# Altium integrated library Wurth_Elektronik_Passive_rev16a.IntLib: 1143 symbols (part 11 of 28)
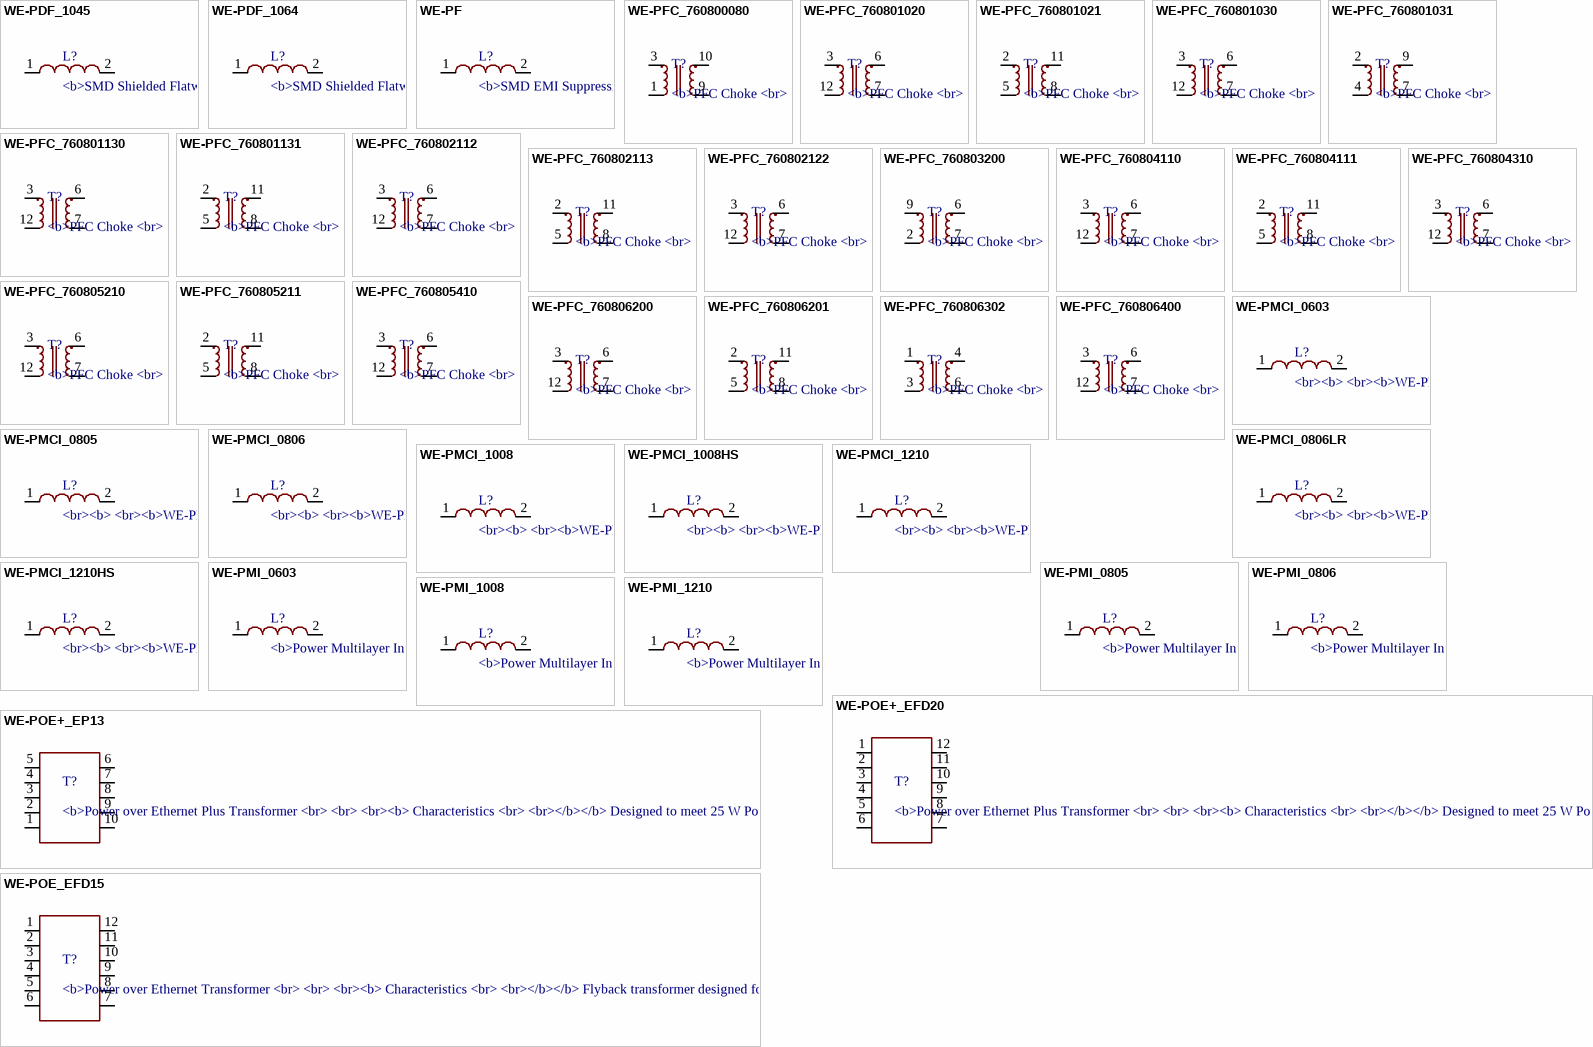
[diagram p68: symbols WE-PDF_1045 to WE-POE_EFD15]

## WE-PDF_1064
designator L?, comment <b>SMD Shielded Flatwire Power Inductor / <br> / <br> / <br><b> Characteristics / <br> / <br></b></b> Core material: NiZn / <br> / <br> Flat wire power inductor / <br> / <br> Advanced operating temperature: –40 °C up to +150 °C / <br> / <br> Magnetically shielded which results in a low leakage field / <br> / <br> Low self-losses / <br> / <br> High saturation current / <br> / <br> Flat wire coil for lower losses at high frequency ranges / <br> / <br> High Self Resonance Frequency / <br> / <br> / <br><b> Applications / <br> / <br></b> Suitable for high frequency switching regulators / <br> / <br> / <br><a href="<br><a href="http://katalog.we-online.de/media/images/eisos/IndPDF_pf2.jpg" title="Enlarge picture"> / <img src="http://katalog.we-online.de/media/images/eisos/IndPDF_pf2.jpg" width="320"></a><p> / Details see: <a href="http://katalog.we-online.de/en/pbs/WE-PDF?">http://katalog.we-online.de/en/pbs/WE-PDF?</a><p> / Updated  by  Dan Xu 2014-07-08<br> / 2014 (C) Wurth Elektronik
footprint WE-PDF
pins: 1, 2

## WE-PF
designator L?, comment <b>SMD EMI Suppression Power Ferrite / <br> / <br> / <br><b> Characteristics / <br> / <br></b></b> Suitable for applications with high currents up to 10 A / <br> / <br> Magnetically shielded version / <br> / <br> Core material NiZn for the use in a wide frequency range / <br> / <br> Operating temperature: –40 ºC to +125 ºC / <br> / <br> / <br><b> Applications / <br> / <br></b> Interference suppression in motors / <br> / <br> Switch mode power supply / <br> / <br> Power electronics / <br> / <br> PWM controller / <br> / <br> / <br> / <br><a href="<br><a href="http://katalog.we-online.de/media/images/eisos/FePF_pf2.jpg" title="Enlarge picture"> / <img src="http://katalog.we-online.de/media/images/eisos/FePF_pf2.jpg" width="320"></a><p> / Details see: <a href="http://katalog.we-online.de/en/pbs/WE-PF?">http://katalog.we-online.de/en/pbs/WE-PF?</a><p> / Updated  by  Dan Xu 2014-07-08<br> / 2014 (C) Wurth Elektronik
footprint WE-PF_7427929...
pins: 1, 2

## WE-PFC_760800080
designator T?, comment <b>PFC Choke / <br> / <br> / <br><b> Characteristics / <br> / <br></b></b> PFC choke for power up to 250 W / <br> / <br> Operating temperature: –40 °C to +125 °C / <br> / <br> PQ 38/11 construction height <10 mm above PCB / <br> / <br> Auxiliary winding / <br> / <br> RF strand for low losses due to skin and proximity effects / <br> / <br> / <br><b> Applications / <br> / <br></b> Active Power Factor correction / <br> / <br> For all ICs CPU PFC ON Semiconductor / <br> / <br> Lighting applications / <br> / <br> Switchmode power supplies / <br> / <br> / <br> / <br><a href="<br><a href="http://katalog.we-online.de/media/images/eisos/IndPFC_MID_pf2.jpg" title="Enlarge picture"> / <img src="http://katalog.we-online.de/media/images/eisos/IndPFC_MID_pf2.jpg" width="320"></a><p> / Details see: <a href="http://katalog.we-online.de/en/pbs/WE-PFC?">http://katalog.we-online.de/en/pbs/WE-PFC?</a><p> / Updated  by  Dan Xu 2014-07-08<br> / 2014 (C) Wurth Elektronik
footprint WE_EE20/10/6_THT_HORIZONTAL_10PIN
pins: 1 4, 3 1, 9 3, 10 2

## WE-PFC_760801020
designator T?, comment <b>PFC Choke / <br> / <br> / <br><b> Characteristics / <br> / <br></b></b> PFC choke for power up to 250 W / <br> / <br> Operating temperature: –40 °C to +125 °C / <br> / <br> PQ 38/11 construction height <10 mm above PCB / <br> / <br> Auxiliary winding / <br> / <br> RF strand for low losses due to skin and proximity effects / <br> / <br> / <br><b> Applications / <br> / <br></b> Active Power Factor correction / <br> / <br> For all ICs CPU PFC ON Semiconductor / <br> / <br> Lighting applications / <br> / <br> Switchmode power supplies / <br> / <br> / <br> / <br><a href="<br><a href="http://katalog.we-online.de/media/images/eisos/IndPFC_MID_pf2.jpg" title="Enlarge picture"> / <img src="http://katalog.we-online.de/media/images/eisos/IndPFC_MID_pf2.jpg" width="320"></a><p> / Details see: <a href="http://katalog.we-online.de/en/pbs/WE-PFC?">http://katalog.we-online.de/en/pbs/WE-PFC?</a><p> / Updated  by  Dan Xu 2014-07-08<br> / 2014 (C) Wurth Elektronik
footprint WE_RM10_THT_12PIN
pins: 3 1, 6 2, 7 3, 12 4

## WE-PFC_760801021
designator T?, comment <b>PFC Choke / <br> / <br> / <br><b> Characteristics / <br> / <br></b></b> PFC choke for power up to 250 W / <br> / <br> Operating temperature: –40 °C to +125 °C / <br> / <br> PQ 38/11 construction height <10 mm above PCB / <br> / <br> Auxiliary winding / <br> / <br> RF strand for low losses due to skin and proximity effects / <br> / <br> / <br><b> Applications / <br> / <br></b> Active Power Factor correction / <br> / <br> For all ICs CPU PFC ON Semiconductor / <br> / <br> Lighting applications / <br> / <br> Switchmode power supplies / <br> / <br> / <br> / <br><a href="<br><a href="http://katalog.we-online.de/media/images/eisos/IndPFC_MID_pf2.jpg" title="Enlarge picture"> / <img src="http://katalog.we-online.de/media/images/eisos/IndPFC_MID_pf2.jpg" width="320"></a><p> / Details see: <a href="http://katalog.we-online.de/en/pbs/WE-PFC?">http://katalog.we-online.de/en/pbs/WE-PFC?</a><p> / Updated  by  Dan Xu 2014-07-08<br> / 2014 (C) Wurth Elektronik
footprint WE_EFD30_THT_12PIN
pins: 2 1, 5 4, 8 3, 11 2

## WE-PFC_760801030
designator T?, comment <b>PFC Choke / <br> / <br> / <br><b> Characteristics / <br> / <br></b></b> PFC choke for power up to 250 W / <br> / <br> Operating temperature: –40 °C to +125 °C / <br> / <br> PQ 38/11 construction height <10 mm above PCB / <br> / <br> Auxiliary winding / <br> / <br> RF strand for low losses due to skin and proximity effects / <br> / <br> / <br><b> Applications / <br> / <br></b> Active Power Factor correction / <br> / <br> For all ICs CPU PFC ON Semiconductor / <br> / <br> Lighting applications / <br> / <br> Switchmode power supplies / <br> / <br> / <br> / <br><a href="<br><a href="http://katalog.we-online.de/media/images/eisos/IndPFC_MID_pf2.jpg" title="Enlarge picture"> / <img src="http://katalog.we-online.de/media/images/eisos/IndPFC_MID_pf2.jpg" width="320"></a><p> / Details see: <a href="http://katalog.we-online.de/en/pbs/WE-PFC?">http://katalog.we-online.de/en/pbs/WE-PFC?</a><p> / Updated  by  Dan Xu 2014-07-08<br> / 2014 (C) Wurth Elektronik
footprint WE_RM10_THT_12PIN
pins: 3 1, 6 2, 7 3, 12 4

## WE-PFC_760801031
designator T?, comment <b>PFC Choke / <br> / <br> / <br><b> Characteristics / <br> / <br></b></b> PFC choke for power up to 250 W / <br> / <br> Operating temperature: –40 °C to +125 °C / <br> / <br> PQ 38/11 construction height <10 mm above PCB / <br> / <br> Auxiliary winding / <br> / <br> RF strand for low losses due to skin and proximity effects / <br> / <br> / <br><b> Applications / <br> / <br></b> Active Power Factor correction / <br> / <br> For all ICs CPU PFC ON Semiconductor / <br> / <br> Lighting applications / <br> / <br> Switchmode power supplies / <br> / <br> / <br> / <br><a href="<br><a href="http://katalog.we-online.de/media/images/eisos/IndPFC_MID_pf2.jpg" title="Enlarge picture"> / <img src="http://katalog.we-online.de/media/images/eisos/IndPFC_MID_pf2.jpg" width="320"></a><p> / Details see: <a href="http://katalog.we-online.de/en/pbs/WE-PFC?">http://katalog.we-online.de/en/pbs/WE-PFC?</a><p> / Updated  by  Dan Xu 2014-07-08<br> / 2014 (C) Wurth Elektronik
footprint WE_EFD25_THT_HORIZONTAL_10PIN
pins: 2 1, 4, 7 3, 9 2

## WE-PFC_760801130
designator T?, comment <b>PFC Choke / <br> / <br> / <br><b> Characteristics / <br> / <br></b></b> PFC choke for power up to 250 W / <br> / <br> Operating temperature: –40 °C to +125 °C / <br> / <br> PQ 38/11 construction height <10 mm above PCB / <br> / <br> Auxiliary winding / <br> / <br> RF strand for low losses due to skin and proximity effects / <br> / <br> / <br><b> Applications / <br> / <br></b> Active Power Factor correction / <br> / <br> For all ICs CPU PFC ON Semiconductor / <br> / <br> Lighting applications / <br> / <br> Switchmode power supplies / <br> / <br> / <br> / <br><a href="<br><a href="http://katalog.we-online.de/media/images/eisos/IndPFC_MID_pf2.jpg" title="Enlarge picture"> / <img src="http://katalog.we-online.de/media/images/eisos/IndPFC_MID_pf2.jpg" width="320"></a><p> / Details see: <a href="http://katalog.we-online.de/en/pbs/WE-PFC?">http://katalog.we-online.de/en/pbs/WE-PFC?</a><p> / Updated  by  Dan Xu 2014-07-08<br> / 2014 (C) Wurth Elektronik
footprint WE_RM10_THT_12PIN
pins: 3 1, 6 2, 7 3, 12 4

## WE-PFC_760801131
designator T?, comment <b>PFC Choke / <br> / <br> / <br><b> Characteristics / <br> / <br></b></b> PFC choke for power up to 250 W / <br> / <br> Operating temperature: –40 °C to +125 °C / <br> / <br> PQ 38/11 construction height <10 mm above PCB / <br> / <br> Auxiliary winding / <br> / <br> RF strand for low losses due to skin and proximity effects / <br> / <br> / <br><b> Applications / <br> / <br></b> Active Power Factor correction / <br> / <br> For all ICs CPU PFC ON Semiconductor / <br> / <br> Lighting applications / <br> / <br> Switchmode power supplies / <br> / <br> / <br> / <br><a href="<br><a href="http://katalog.we-online.de/media/images/eisos/IndPFC_MID_pf2.jpg" title="Enlarge picture"> / <img src="http://katalog.we-online.de/media/images/eisos/IndPFC_MID_pf2.jpg" width="320"></a><p> / Details see: <a href="http://katalog.we-online.de/en/pbs/WE-PFC?">http://katalog.we-online.de/en/pbs/WE-PFC?</a><p> / Updated  by  Dan Xu 2014-07-08<br> / 2014 (C) Wurth Elektronik
footprint WE_EFD30_THT_12PIN
pins: 2 1, 5 4, 8 3, 11 2

## WE-PFC_760802112
designator T?, comment <b>PFC Choke / <br> / <br> / <br><b> Characteristics / <br> / <br></b></b> PFC choke for power up to 250 W / <br> / <br> Operating temperature: –40 °C to +125 °C / <br> / <br> PQ 38/11 construction height <10 mm above PCB / <br> / <br> Auxiliary winding / <br> / <br> RF strand for low losses due to skin and proximity effects / <br> / <br> / <br><b> Applications / <br> / <br></b> Active Power Factor correction / <br> / <br> For all ICs CPU PFC ON Semiconductor / <br> / <br> Lighting applications / <br> / <br> Switchmode power supplies / <br> / <br> / <br> / <br><a href="<br><a href="http://katalog.we-online.de/media/images/eisos/IndPFC_MID_pf2.jpg" title="Enlarge picture"> / <img src="http://katalog.we-online.de/media/images/eisos/IndPFC_MID_pf2.jpg" width="320"></a><p> / Details see: <a href="http://katalog.we-online.de/en/pbs/WE-PFC?">http://katalog.we-online.de/en/pbs/WE-PFC?</a><p> / Updated  by  Dan Xu 2014-07-08<br> / 2014 (C) Wurth Elektronik
footprint WE_RM10_THT_12PIN
pins: 3 1, 6 2, 7 3, 12 4

## WE-PFC_760802113
designator T?, comment <b>PFC Choke / <br> / <br> / <br><b> Characteristics / <br> / <br></b></b> PFC choke for power up to 250 W / <br> / <br> Operating temperature: –40 °C to +125 °C / <br> / <br> PQ 38/11 construction height <10 mm above PCB / <br> / <br> Auxiliary winding / <br> / <br> RF strand for low losses due to skin and proximity effects / <br> / <br> / <br><b> Applications / <br> / <br></b> Active Power Factor correction / <br> / <br> For all ICs CPU PFC ON Semiconductor / <br> / <br> Lighting applications / <br> / <br> Switchmode power supplies / <br> / <br> / <br> / <br><a href="<br><a href="http://katalog.we-online.de/media/images/eisos/IndPFC_MID_pf2.jpg" title="Enlarge picture"> / <img src="http://katalog.we-online.de/media/images/eisos/IndPFC_MID_pf2.jpg" width="320"></a><p> / Details see: <a href="http://katalog.we-online.de/en/pbs/WE-PFC?">http://katalog.we-online.de/en/pbs/WE-PFC?</a><p> / Updated  by  Dan Xu 2014-07-08<br> / 2014 (C) Wurth Elektronik
footprint WE_EFD30_THT_12PIN
pins: 2 1, 5 4, 8 3, 11 2

## WE-PFC_760802122
designator T?, comment <b>PFC Choke / <br> / <br> / <br><b> Characteristics / <br> / <br></b></b> PFC choke for power up to 250 W / <br> / <br> Operating temperature: –40 °C to +125 °C / <br> / <br> PQ 38/11 construction height <10 mm above PCB / <br> / <br> Auxiliary winding / <br> / <br> RF strand for low losses due to skin and proximity effects / <br> / <br> / <br><b> Applications / <br> / <br></b> Active Power Factor correction / <br> / <br> For all ICs CPU PFC ON Semiconductor / <br> / <br> Lighting applications / <br> / <br> Switchmode power supplies / <br> / <br> / <br> / <br><a href="<br><a href="http://katalog.we-online.de/media/images/eisos/IndPFC_MID_pf2.jpg" title="Enlarge picture"> / <img src="http://katalog.we-online.de/media/images/eisos/IndPFC_MID_pf2.jpg" width="320"></a><p> / Details see: <a href="http://katalog.we-online.de/en/pbs/WE-PFC?">http://katalog.we-online.de/en/pbs/WE-PFC?</a><p> / Updated  by  Dan Xu 2014-07-08<br> / 2014 (C) Wurth Elektronik
footprint WE_RM12_THT_12PIN
pins: 3 1, 6 2, 7 3, 12 4

## WE-PFC_760803200
designator T?, comment <b>PFC Choke / <br> / <br> / <br><b> Characteristics / <br> / <br></b></b> PFC choke for power up to 250 W / <br> / <br> Operating temperature: –40 °C to +125 °C / <br> / <br> PQ 38/11 construction height <10 mm above PCB / <br> / <br> Auxiliary winding / <br> / <br> RF strand for low losses due to skin and proximity effects / <br> / <br> / <br><b> Applications / <br> / <br></b> Active Power Factor correction / <br> / <br> For all ICs CPU PFC ON Semiconductor / <br> / <br> Lighting applications / <br> / <br> Switchmode power supplies / <br> / <br> / <br> / <br><a href="<br><a href="http://katalog.we-online.de/media/images/eisos/IndPFC_MID_pf2.jpg" title="Enlarge picture"> / <img src="http://katalog.we-online.de/media/images/eisos/IndPFC_MID_pf2.jpg" width="320"></a><p> / Details see: <a href="http://katalog.we-online.de/en/pbs/WE-PFC?">http://katalog.we-online.de/en/pbs/WE-PFC?</a><p> / Updated  by  Dan Xu 2014-07-08<br> / 2014 (C) Wurth Elektronik
footprint WE_EER28_THT_HORIZONTAL_9PIN
pins: 2 4, 6 2, 7 3, 9 1

## WE-PFC_760804110
designator T?, comment <b>PFC Choke / <br> / <br> / <br><b> Characteristics / <br> / <br></b></b> PFC choke for power up to 250 W / <br> / <br> Operating temperature: –40 °C to +125 °C / <br> / <br> PQ 38/11 construction height <10 mm above PCB / <br> / <br> Auxiliary winding / <br> / <br> RF strand for low losses due to skin and proximity effects / <br> / <br> / <br><b> Applications / <br> / <br></b> Active Power Factor correction / <br> / <br> For all ICs CPU PFC ON Semiconductor / <br> / <br> Lighting applications / <br> / <br> Switchmode power supplies / <br> / <br> / <br> / <br><a href="<br><a href="http://katalog.we-online.de/media/images/eisos/IndPFC_MID_pf2.jpg" title="Enlarge picture"> / <img src="http://katalog.we-online.de/media/images/eisos/IndPFC_MID_pf2.jpg" width="320"></a><p> / Details see: <a href="http://katalog.we-online.de/en/pbs/WE-PFC?">http://katalog.we-online.de/en/pbs/WE-PFC?</a><p> / Updated  by  Dan Xu 2014-07-08<br> / 2014 (C) Wurth Elektronik
footprint WE_RM10_THT_12PIN
pins: 3 1, 6 2, 7 3, 12 4

## WE-PFC_760804111
designator T?, comment <b>PFC Choke / <br> / <br> / <br><b> Characteristics / <br> / <br></b></b> PFC choke for power up to 250 W / <br> / <br> Operating temperature: –40 °C to +125 °C / <br> / <br> PQ 38/11 construction height <10 mm above PCB / <br> / <br> Auxiliary winding / <br> / <br> RF strand for low losses due to skin and proximity effects / <br> / <br> / <br><b> Applications / <br> / <br></b> Active Power Factor correction / <br> / <br> For all ICs CPU PFC ON Semiconductor / <br> / <br> Lighting applications / <br> / <br> Switchmode power supplies / <br> / <br> / <br> / <br><a href="<br><a href="http://katalog.we-online.de/media/images/eisos/IndPFC_MID_pf2.jpg" title="Enlarge picture"> / <img src="http://katalog.we-online.de/media/images/eisos/IndPFC_MID_pf2.jpg" width="320"></a><p> / Details see: <a href="http://katalog.we-online.de/en/pbs/WE-PFC?">http://katalog.we-online.de/en/pbs/WE-PFC?</a><p> / Updated  by  Dan Xu 2014-07-08<br> / 2014 (C) Wurth Elektronik
footprint WE_EFD30_THT_12PIN
pins: 2 1, 5 4, 8 3, 11 2

## WE-PFC_760804310
designator T?, comment <b>PFC Choke / <br> / <br> / <br><b> Characteristics / <br> / <br></b></b> PFC choke for power up to 250 W / <br> / <br> Operating temperature: –40 °C to +125 °C / <br> / <br> PQ 38/11 construction height <10 mm above PCB / <br> / <br> Auxiliary winding / <br> / <br> RF strand for low losses due to skin and proximity effects / <br> / <br> / <br><b> Applications / <br> / <br></b> Active Power Factor correction / <br> / <br> For all ICs CPU PFC ON Semiconductor / <br> / <br> Lighting applications / <br> / <br> Switchmode power supplies / <br> / <br> / <br> / <br><a href="<br><a href="http://katalog.we-online.de/media/images/eisos/IndPFC_MID_pf2.jpg" title="Enlarge picture"> / <img src="http://katalog.we-online.de/media/images/eisos/IndPFC_MID_pf2.jpg" width="320"></a><p> / Details see: <a href="http://katalog.we-online.de/en/pbs/WE-PFC?">http://katalog.we-online.de/en/pbs/WE-PFC?</a><p> / Updated  by  Dan Xu 2014-07-08<br> / 2014 (C) Wurth Elektronik
footprint WE_RM12_THT_12PIN
pins: 3 1, 6 2, 7 3, 12 4

## WE-PFC_760805210
designator T?, comment <b>PFC Choke / <br> / <br> / <br><b> Characteristics / <br> / <br></b></b> PFC choke for power up to 250 W / <br> / <br> Operating temperature: –40 °C to +125 °C / <br> / <br> PQ 38/11 construction height <10 mm above PCB / <br> / <br> Auxiliary winding / <br> / <br> RF strand for low losses due to skin and proximity effects / <br> / <br> / <br><b> Applications / <br> / <br></b> Active Power Factor correction / <br> / <br> For all ICs CPU PFC ON Semiconductor / <br> / <br> Lighting applications / <br> / <br> Switchmode power supplies / <br> / <br> / <br> / <br><a href="<br><a href="http://katalog.we-online.de/media/images/eisos/IndPFC_MID_pf2.jpg" title="Enlarge picture"> / <img src="http://katalog.we-online.de/media/images/eisos/IndPFC_MID_pf2.jpg" width="320"></a><p> / Details see: <a href="http://katalog.we-online.de/en/pbs/WE-PFC?">http://katalog.we-online.de/en/pbs/WE-PFC?</a><p> / Updated  by  Dan Xu 2014-07-08<br> / 2014 (C) Wurth Elektronik
footprint WE_RM12_THT_12PIN
pins: 3 1, 6 2, 7 3, 12 4

## WE-PFC_760805211
designator T?, comment <b>PFC Choke / <br> / <br> / <br><b> Characteristics / <br> / <br></b></b> PFC choke for power up to 250 W / <br> / <br> Operating temperature: –40 °C to +125 °C / <br> / <br> PQ 38/11 construction height <10 mm above PCB / <br> / <br> Auxiliary winding / <br> / <br> RF strand for low losses due to skin and proximity effects / <br> / <br> / <br><b> Applications / <br> / <br></b> Active Power Factor correction / <br> / <br> For all ICs CPU PFC ON Semiconductor / <br> / <br> Lighting applications / <br> / <br> Switchmode power supplies / <br> / <br> / <br> / <br><a href="<br><a href="http://katalog.we-online.de/media/images/eisos/IndPFC_MID_pf2.jpg" title="Enlarge picture"> / <img src="http://katalog.we-online.de/media/images/eisos/IndPFC_MID_pf2.jpg" width="320"></a><p> / Details see: <a href="http://katalog.we-online.de/en/pbs/WE-PFC?">http://katalog.we-online.de/en/pbs/WE-PFC?</a><p> / Updated  by  Dan Xu 2014-07-08<br> / 2014 (C) Wurth Elektronik
footprint WE_EFD30_THT_12PIN
pins: 2 1, 5 4, 8 3, 11 2

## WE-PFC_760805410
designator T?, comment <b>PFC Choke / <br> / <br> / <br><b> Characteristics / <br> / <br></b></b> PFC choke for power up to 250 W / <br> / <br> Operating temperature: –40 °C to +125 °C / <br> / <br> PQ 38/11 construction height <10 mm above PCB / <br> / <br> Auxiliary winding / <br> / <br> RF strand for low losses due to skin and proximity effects / <br> / <br> / <br><b> Applications / <br> / <br></b> Active Power Factor correction / <br> / <br> For all ICs CPU PFC ON Semiconductor / <br> / <br> Lighting applications / <br> / <br> Switchmode power supplies / <br> / <br> / <br> / <br><a href="<br><a href="http://katalog.we-online.de/media/images/eisos/IndPFC_MID_pf2.jpg" title="Enlarge picture"> / <img src="http://katalog.we-online.de/media/images/eisos/IndPFC_MID_pf2.jpg" width="320"></a><p> / Details see: <a href="http://katalog.we-online.de/en/pbs/WE-PFC?">http://katalog.we-online.de/en/pbs/WE-PFC?</a><p> / Updated  by  Dan Xu 2014-07-08<br> / 2014 (C) Wurth Elektronik
footprint WE_RM14_THT_12PIN
pins: 3 1, 6 2, 7 3, 12 4

## WE-PFC_760806200
designator T?, comment <b>PFC Choke / <br> / <br> / <br><b> Characteristics / <br> / <br></b></b> PFC choke for power up to 250 W / <br> / <br> Operating temperature: –40 °C to +125 °C / <br> / <br> PQ 38/11 construction height <10 mm above PCB / <br> / <br> Auxiliary winding / <br> / <br> RF strand for low losses due to skin and proximity effects / <br> / <br> / <br><b> Applications / <br> / <br></b> Active Power Factor correction / <br> / <br> For all ICs CPU PFC ON Semiconductor / <br> / <br> Lighting applications / <br> / <br> Switchmode power supplies / <br> / <br> / <br> / <br><a href="<br><a href="http://katalog.we-online.de/media/images/eisos/IndPFC_MID_pf2.jpg" title="Enlarge picture"> / <img src="http://katalog.we-online.de/media/images/eisos/IndPFC_MID_pf2.jpg" width="320"></a><p> / Details see: <a href="http://katalog.we-online.de/en/pbs/WE-PFC?">http://katalog.we-online.de/en/pbs/WE-PFC?</a><p> / Updated  by  Dan Xu 2014-07-08<br> / 2014 (C) Wurth Elektronik
footprint WE_RM12_THT_12PIN
pins: 3 1, 6 2, 7 3, 12 4

## WE-PFC_760806201
designator T?, comment <b>PFC Choke / <br> / <br> / <br><b> Characteristics / <br> / <br></b></b> PFC choke for power up to 250 W / <br> / <br> Operating temperature: –40 °C to +125 °C / <br> / <br> PQ 38/11 construction height <10 mm above PCB / <br> / <br> Auxiliary winding / <br> / <br> RF strand for low losses due to skin and proximity effects / <br> / <br> / <br><b> Applications / <br> / <br></b> Active Power Factor correction / <br> / <br> For all ICs CPU PFC ON Semiconductor / <br> / <br> Lighting applications / <br> / <br> Switchmode power supplies / <br> / <br> / <br> / <br><a href="<br><a href="http://katalog.we-online.de/media/images/eisos/IndPFC_MID_pf2.jpg" title="Enlarge picture"> / <img src="http://katalog.we-online.de/media/images/eisos/IndPFC_MID_pf2.jpg" width="320"></a><p> / Details see: <a href="http://katalog.we-online.de/en/pbs/WE-PFC?">http://katalog.we-online.de/en/pbs/WE-PFC?</a><p> / Updated  by  Dan Xu 2014-07-08<br> / 2014 (C) Wurth Elektronik
footprint WE_EFD30_THT_12PIN
pins: 2 1, 5 4, 8 3, 11 2

## WE-PFC_760806302
designator T?, comment <b>PFC Choke / <br> / <br> / <br><b> Characteristics / <br> / <br></b></b> PFC choke for power up to 250 W / <br> / <br> Operating temperature: –40 °C to +125 °C / <br> / <br> PQ 38/11 construction height <10 mm above PCB / <br> / <br> Auxiliary winding / <br> / <br> RF strand for low losses due to skin and proximity effects / <br> / <br> / <br><b> Applications / <br> / <br></b> Active Power Factor correction / <br> / <br> For all ICs CPU PFC ON Semiconductor / <br> / <br> Lighting applications / <br> / <br> Switchmode power supplies / <br> / <br> / <br> / <br><a href="<br><a href="http://katalog.we-online.de/media/images/eisos/IndPFC_MID_pf2.jpg" title="Enlarge picture"> / <img src="http://katalog.we-online.de/media/images/eisos/IndPFC_MID_pf2.jpg" width="320"></a><p> / Details see: <a href="http://katalog.we-online.de/en/pbs/WE-PFC?">http://katalog.we-online.de/en/pbs/WE-PFC?</a><p> / Updated  by  Dan Xu 2014-07-08<br> / 2014 (C) Wurth Elektronik
footprint WE_PQ38/11_6PIN
pins: 1, 3 4, 4 2, 6 3

## WE-PFC_760806400
designator T?, comment <b>PFC Choke / <br> / <br> / <br><b> Characteristics / <br> / <br></b></b> PFC choke for power up to 250 W / <br> / <br> Operating temperature: –40 °C to +125 °C / <br> / <br> PQ 38/11 construction height <10 mm above PCB / <br> / <br> Auxiliary winding / <br> / <br> RF strand for low losses due to skin and proximity effects / <br> / <br> / <br><b> Applications / <br> / <br></b> Active Power Factor correction / <br> / <br> For all ICs CPU PFC ON Semiconductor / <br> / <br> Lighting applications / <br> / <br> Switchmode power supplies / <br> / <br> / <br> / <br><a href="<br><a href="http://katalog.we-online.de/media/images/eisos/IndPFC_MID_pf2.jpg" title="Enlarge picture"> / <img src="http://katalog.we-online.de/media/images/eisos/IndPFC_MID_pf2.jpg" width="320"></a><p> / Details see: <a href="http://katalog.we-online.de/en/pbs/WE-PFC?">http://katalog.we-online.de/en/pbs/WE-PFC?</a><p> / Updated  by  Dan Xu 2014-07-08<br> / 2014 (C) Wurth Elektronik
footprint WE_RM14_THT_12PIN
pins: 3 1, 6 2, 7 3, 12 4

## WE-PMCI_0603
designator L?, comment <br><b> <br><b>WE-PMCI Power Molded Chip / Inductor<br><br></b></b> / <P> <font color="#0000FF"><B>Characteristics</B></font></td><BR> / <br>Compact inductor chip type / <br>High effciency / <br>Suitable for applications with high currents up to 3.6 A. Very high DC-Bias current / <br>Very small electrical resistance, smallest RDC-Values starting at 19 mΩ / <br>Magnetically shielded construction: No crosstalk / <br>Operating temperature: –40 °C to +125 °C / <br>Available in five sizes and three different types (Low Profile, Standard and High Saturation Current) / <br>Recommended soldering profile: Reflow / <P> <font color="#0000FF"><B>Applications</B></font></td><BR><BR> / <br>DC/DC converters especially at high switching frequencies > 1 MHz / <br>High current power supply, Battery powered devices / <br>Powerable electronic devices with very low profile / <br>Portable devices like Smart Phones, Tablets, Notebooks and Digital Cameras / <br> / <br> / <br> / <br> / <br><a href="http://katalog.we-online.de/media/images/v2/Family_WE-PMCI.jpg" title="Enlarge picture"> / <img src="http://katalog.we-online.de/media/images/v2/Family_WE-PMCI.jpg" width="320"></a><p> / Details see: <a href="http://katalog.we-online.de/en/pbs/WE-PMCI">http://katalog.we-online.de/en/pbs/WE-PMCI</a><p> / <br></b>2015 (C) Wurth Elektronik
footprint 0603_74479262XXX
pins: 1, 2

## WE-PMCI_0805
designator L?, comment <br><b> <br><b>WE-PMCI Power Molded Chip / Inductor<br><br></b></b> / <P> <font color="#0000FF"><B>Characteristics</B></font></td><BR> / <br>Compact inductor chip type / <br>High effciency / <br>Suitable for applications with high currents up to 3.6 A. Very high DC-Bias current / <br>Very small electrical resistance, smallest RDC-Values starting at 19 mΩ / <br>Magnetically shielded construction: No crosstalk / <br>Operating temperature: –40 °C to +125 °C / <br>Available in five sizes and three different types (Low Profile, Standard and High Saturation Current) / <br>Recommended soldering profile: Reflow / <P> <font color="#0000FF"><B>Applications</B></font></td><BR><BR> / <br>DC/DC converters especially at high switching frequencies > 1 MHz / <br>High current power supply, Battery powered devices / <br>Powerable electronic devices with very low profile / <br>Portable devices like Smart Phones, Tablets, Notebooks and Digital Cameras / <br> / <br> / <br> / <br> / <br><a href="http://katalog.we-online.de/media/images/v2/Family_WE-PMCI.jpg" title="Enlarge picture"> / <img src="http://katalog.we-online.de/media/images/v2/Family_WE-PMCI.jpg" width="320"></a><p> / Details see: <a href="http://katalog.we-online.de/en/pbs/WE-PMCI">http://katalog.we-online.de/en/pbs/WE-PMCI</a><p> / <br></b>2015 (C) Wurth Elektronik
footprint 0805_74479275XXX
pins: 1, 2

## WE-PMCI_0806
designator L?, comment <br><b> <br><b>WE-PMCI Power Molded Chip / Inductor<br><br></b></b> / <P> <font color="#0000FF"><B>Characteristics</B></font></td><BR> / <br>Compact inductor chip type / <br>High effciency / <br>Suitable for applications with high currents up to 3.6 A. Very high DC-Bias current / <br>Very small electrical resistance, smallest RDC-Values starting at 19 mΩ / <br>Magnetically shielded construction: No crosstalk / <br>Operating temperature: –40 °C to +125 °C / <br>Available in five sizes and three different types (Low Profile, Standard and High Saturation Current) / <br>Recommended soldering profile: Reflow / <P> <font color="#0000FF"><B>Applications</B></font></td><BR><BR> / <br>DC/DC converters especially at high switching frequencies > 1 MHz / <br>High current power supply, Battery powered devices / <br>Powerable electronic devices with very low profile / <br>Portable devices like Smart Phones, Tablets, Notebooks and Digital Cameras / <br> / <br> / <br> / <br> / <br><a href="http://katalog.we-online.de/media/images/v2/Family_WE-PMCI.jpg" title="Enlarge picture"> / <img src="http://katalog.we-online.de/media/images/v2/Family_WE-PMCI.jpg" width="320"></a><p> / Details see: <a href="http://katalog.we-online.de/en/pbs/WE-PMCI">http://katalog.we-online.de/en/pbs/WE-PMCI</a><p> / <br></b>2015 (C) Wurth Elektronik
footprint 0806_74479276XXX
pins: 1, 2

## WE-PMCI_0806LR
designator L?, comment <br><b> <br><b>WE-PMCI Power Molded Chip / Inductor<br><br></b></b> / <P> <font color="#0000FF"><B>Characteristics</B></font></td><BR> / <br>Compact inductor chip type / <br>High effciency / <br>Suitable for applications with high currents up to 3.6 A. Very high DC-Bias current / <br>Very small electrical resistance, smallest RDC-Values starting at 19 mΩ / <br>Magnetically shielded construction: No crosstalk / <br>Operating temperature: –40 °C to +125 °C / <br>Available in five sizes and three different types (Low Profile, Standard and High Saturation Current) / <br>Recommended soldering profile: Reflow / <P> <font color="#0000FF"><B>Applications</B></font></td><BR><BR> / <br>DC/DC converters especially at high switching frequencies > 1 MHz / <br>High current power supply, Battery powered devices / <br>Powerable electronic devices with very low profile / <br>Portable devices like Smart Phones, Tablets, Notebooks and Digital Cameras / <br> / <br> / <br> / <br> / <br><a href="http://katalog.we-online.de/media/images/v2/Family_WE-PMCI.jpg" title="Enlarge picture"> / <img src="http://katalog.we-online.de/media/images/v2/Family_WE-PMCI.jpg" width="320"></a><p> / Details see: <a href="http://katalog.we-online.de/en/pbs/WE-PMCI">http://katalog.we-online.de/en/pbs/WE-PMCI</a><p> / <br></b>2015 (C) Wurth Elektronik
footprint 0806_74479276XXXC
pins: 1, 2

## WE-PMCI_1008
designator L?, comment <br><b> <br><b>WE-PMCI Power Molded Chip / Inductor<br><br></b></b> / <P> <font color="#0000FF"><B>Characteristics</B></font></td><BR> / <br>Compact inductor chip type / <br>High effciency / <br>Suitable for applications with high currents up to 3.6 A. Very high DC-Bias current / <br>Very small electrical resistance, smallest RDC-Values starting at 19 mΩ / <br>Magnetically shielded construction: No crosstalk / <br>Operating temperature: –40 °C to +125 °C / <br>Available in five sizes and three different types (Low Profile, Standard and High Saturation Current) / <br>Recommended soldering profile: Reflow / <P> <font color="#0000FF"><B>Applications</B></font></td><BR><BR> / <br>DC/DC converters especially at high switching frequencies > 1 MHz / <br>High current power supply, Battery powered devices / <br>Powerable electronic devices with very low profile / <br>Portable devices like Smart Phones, Tablets, Notebooks and Digital Cameras / <br> / <br> / <br> / <br> / <br><a href="http://katalog.we-online.de/media/images/v2/Family_WE-PMCI.jpg" title="Enlarge picture"> / <img src="http://katalog.we-online.de/media/images/v2/Family_WE-PMCI.jpg" width="320"></a><p> / Details see: <a href="http://katalog.we-online.de/en/pbs/WE-PMCI">http://katalog.we-online.de/en/pbs/WE-PMCI</a><p> / <br></b>2015 (C) Wurth Elektronik
footprint 1008_74479287XXX
pins: 1, 2

## WE-PMCI_1008HS
designator L?, comment <br><b> <br><b>WE-PMCI Power Molded Chip / Inductor<br><br></b></b> / <P> <font color="#0000FF"><B>Characteristics</B></font></td><BR> / <br>Compact inductor chip type / <br>High effciency / <br>Suitable for applications with high currents up to 3.6 A. Very high DC-Bias current / <br>Very small electrical resistance, smallest RDC-Values starting at 19 mΩ / <br>Magnetically shielded construction: No crosstalk / <br>Operating temperature: –40 °C to +125 °C / <br>Available in five sizes and three different types (Low Profile, Standard and High Saturation Current) / <br>Recommended soldering profile: Reflow / <P> <font color="#0000FF"><B>Applications</B></font></td><BR><BR> / <br>DC/DC converters especially at high switching frequencies > 1 MHz / <br>High current power supply, Battery powered devices / <br>Powerable electronic devices with very low profile / <br>Portable devices like Smart Phones, Tablets, Notebooks and Digital Cameras / <br> / <br> / <br> / <br> / <br><a href="http://katalog.we-online.de/media/images/v2/Family_WE-PMCI.jpg" title="Enlarge picture"> / <img src="http://katalog.we-online.de/media/images/v2/Family_WE-PMCI.jpg" width="320"></a><p> / Details see: <a href="http://katalog.we-online.de/en/pbs/WE-PMCI">http://katalog.we-online.de/en/pbs/WE-PMCI</a><p> / <br></b>2015 (C) Wurth Elektronik
footprint 1008_74479288XXX
pins: 1, 2

## WE-PMCI_1210
designator L?, comment <br><b> <br><b>WE-PMCI Power Molded Chip / Inductor<br><br></b></b> / <P> <font color="#0000FF"><B>Characteristics</B></font></td><BR> / <br>Compact inductor chip type / <br>High effciency / <br>Suitable for applications with high currents up to 3.6 A. Very high DC-Bias current / <br>Very small electrical resistance, smallest RDC-Values starting at 19 mΩ / <br>Magnetically shielded construction: No crosstalk / <br>Operating temperature: –40 °C to +125 °C / <br>Available in five sizes and three different types (Low Profile, Standard and High Saturation Current) / <br>Recommended soldering profile: Reflow / <P> <font color="#0000FF"><B>Applications</B></font></td><BR><BR> / <br>DC/DC converters especially at high switching frequencies > 1 MHz / <br>High current power supply, Battery powered devices / <br>Powerable electronic devices with very low profile / <br>Portable devices like Smart Phones, Tablets, Notebooks and Digital Cameras / <br> / <br> / <br> / <br> / <br><a href="http://katalog.we-online.de/media/images/v2/Family_WE-PMCI.jpg" title="Enlarge picture"> / <img src="http://katalog.we-online.de/media/images/v2/Family_WE-PMCI.jpg" width="320"></a><p> / Details see: <a href="http://katalog.we-online.de/en/pbs/WE-PMCI">http://katalog.we-online.de/en/pbs/WE-PMCI</a><p> / <br></b>2015 (C) Wurth Elektronik
footprint 1210_74479298XXX
pins: 1, 2

## WE-PMCI_1210HS
designator L?, comment <br><b> <br><b>WE-PMCI Power Molded Chip / Inductor<br><br></b></b> / <P> <font color="#0000FF"><B>Characteristics</B></font></td><BR> / <br>Compact inductor chip type / <br>High effciency / <br>Suitable for applications with high currents up to 3.6 A. Very high DC-Bias current / <br>Very small electrical resistance, smallest RDC-Values starting at 19 mΩ / <br>Magnetically shielded construction: No crosstalk / <br>Operating temperature: –40 °C to +125 °C / <br>Available in five sizes and three different types (Low Profile, Standard and High Saturation Current) / <br>Recommended soldering profile: Reflow / <P> <font color="#0000FF"><B>Applications</B></font></td><BR><BR> / <br>DC/DC converters especially at high switching frequencies > 1 MHz / <br>High current power supply, Battery powered devices / <br>Powerable electronic devices with very low profile / <br>Portable devices like Smart Phones, Tablets, Notebooks and Digital Cameras / <br> / <br> / <br> / <br> / <br><a href="http://katalog.we-online.de/media/images/v2/Family_WE-PMCI.jpg" title="Enlarge picture"> / <img src="http://katalog.we-online.de/media/images/v2/Family_WE-PMCI.jpg" width="320"></a><p> / Details see: <a href="http://katalog.we-online.de/en/pbs/WE-PMCI">http://katalog.we-online.de/en/pbs/WE-PMCI</a><p> / <br></b>2015 (C) Wurth Elektronik
footprint 1210_74479299XXX
pins: 1, 2

## WE-PMI_0603
designator L?, comment <b>Power Multilayer Inductor / <br> / <br> / <br><b> Characteristics / <br> / <br></b></b> Compact multilayer type / <br> / <br> Suitable for applications with high currents up to 2.7 A / <br> / <br> Smallest RDC-Values starting at 40 mΩ / <br> / <br> Magnetically shielded construction: No crosstalk / <br> / <br> Operating temperature: –40 °C to +125 °C / <br> / <br> Available in four sizes and three different types (Low Profile, Low RDC & High Saturation Current) / <br> / <br> Recommended soldering profile: Reflow / <br> / <br> / <br><b> Applications / <br> / <br></b> DC/DC converters especially at high switching frequencies > 1 MHz / <br> / <br> Electronic devices with very low profile / <br> / <br> Portable devices like Smart Phones, Tablets, Notebooks and Digital Cameras / <br> / <br> / <br> / <br><a href="<br><a href="http://katalog.we-online.de/media/images/eisos/IndPMI_pf2.jpgg" title="Enlarge picture"> / <img src="http://katalog.we-online.de/media/images/eisos/IndPMI_pf2.jpg" width="320"></a><p> / Details see: <a href="http://katalog.we-online.de/en/pbs/WE-PMI?">http://katalog.we-online.de/en/pbs/WE-PMI?</a><p> / Updated  by  Dan Xu 2014-07-08<br> / 2014 (C) Wurth Elektronik
footprint WE-PMI_0603
pins: 1, 2

## WE-PMI_0805
designator L?, comment <b>Power Multilayer Inductor / <br> / <br> / <br><b> Characteristics / <br> / <br></b></b> Compact multilayer type / <br> / <br> Suitable for applications with high currents up to 2.7 A / <br> / <br> Smallest RDC-Values starting at 40 mΩ / <br> / <br> Magnetically shielded construction: No crosstalk / <br> / <br> Operating temperature: –40 °C to +125 °C / <br> / <br> Available in four sizes and three different types (Low Profile, Low RDC & High Saturation Current) / <br> / <br> Recommended soldering profile: Reflow / <br> / <br> / <br><b> Applications / <br> / <br></b> DC/DC converters especially at high switching frequencies > 1 MHz / <br> / <br> Electronic devices with very low profile / <br> / <br> Portable devices like Smart Phones, Tablets, Notebooks and Digital Cameras / <br> / <br> / <br> / <br><a href="<br><a href="http://katalog.we-online.de/media/images/eisos/IndPMI_pf2.jpgg" title="Enlarge picture"> / <img src="http://katalog.we-online.de/media/images/eisos/IndPMI_pf2.jpg" width="320"></a><p> / Details see: <a href="http://katalog.we-online.de/en/pbs/WE-PMI?">http://katalog.we-online.de/en/pbs/WE-PMI?</a><p> / Updated  by  Dan Xu 2014-07-08<br> / 2014 (C) Wurth Elektronik
footprint WE-PMI_0805
pins: 1, 2

## WE-PMI_0806
designator L?, comment <b>Power Multilayer Inductor / <br> / <br> / <br><b> Characteristics / <br> / <br></b></b> Compact multilayer type / <br> / <br> Suitable for applications with high currents up to 2.7 A / <br> / <br> Smallest RDC-Values starting at 40 mΩ / <br> / <br> Magnetically shielded construction: No crosstalk / <br> / <br> Operating temperature: –40 °C to +125 °C / <br> / <br> Available in four sizes and three different types (Low Profile, Low RDC & High Saturation Current) / <br> / <br> Recommended soldering profile: Reflow / <br> / <br> / <br><b> Applications / <br> / <br></b> DC/DC converters especially at high switching frequencies > 1 MHz / <br> / <br> Electronic devices with very low profile / <br> / <br> Portable devices like Smart Phones, Tablets, Notebooks and Digital Cameras / <br> / <br> / <br> / <br><a href="<br><a href="http://katalog.we-online.de/media/images/eisos/IndPMI_pf2.jpgg" title="Enlarge picture"> / <img src="http://katalog.we-online.de/media/images/eisos/IndPMI_pf2.jpg" width="320"></a><p> / Details see: <a href="http://katalog.we-online.de/en/pbs/WE-PMI?">http://katalog.we-online.de/en/pbs/WE-PMI?</a><p> / Updated  by  Dan Xu 2014-07-08<br> / 2014 (C) Wurth Elektronik
footprint WE-PMI_0806
pins: 1, 2

## WE-PMI_1008
designator L?, comment <b>Power Multilayer Inductor / <br> / <br> / <br><b> Characteristics / <br> / <br></b></b> Compact multilayer type / <br> / <br> Suitable for applications with high currents up to 2.7 A / <br> / <br> Smallest RDC-Values starting at 40 mΩ / <br> / <br> Magnetically shielded construction: No crosstalk / <br> / <br> Operating temperature: –40 °C to +125 °C / <br> / <br> Available in four sizes and three different types (Low Profile, Low RDC & High Saturation Current) / <br> / <br> Recommended soldering profile: Reflow / <br> / <br> / <br><b> Applications / <br> / <br></b> DC/DC converters especially at high switching frequencies > 1 MHz / <br> / <br> Electronic devices with very low profile / <br> / <br> Portable devices like Smart Phones, Tablets, Notebooks and Digital Cameras / <br> / <br> / <br> / <br><a href="<br><a href="http://katalog.we-online.de/media/images/eisos/IndPMI_pf2.jpgg" title="Enlarge picture"> / <img src="http://katalog.we-online.de/media/images/eisos/IndPMI_pf2.jpg" width="320"></a><p> / Details see: <a href="http://katalog.we-online.de/en/pbs/WE-PMI?">http://katalog.we-online.de/en/pbs/WE-PMI?</a><p> / Updated  by  Dan Xu 2014-07-08<br> / 2014 (C) Wurth Elektronik
footprint WE-PMI_1008
pins: 1, 2

## WE-PMI_1210
designator L?, comment <b>Power Multilayer Inductor / <br> / <br> / <br><b> Characteristics / <br> / <br></b></b> Compact multilayer type / <br> / <br> Suitable for applications with high currents up to 2.7 A / <br> / <br> Smallest RDC-Values starting at 40 mΩ / <br> / <br> Magnetically shielded construction: No crosstalk / <br> / <br> Operating temperature: –40 °C to +125 °C / <br> / <br> Available in four sizes and three different types (Low Profile, Low RDC & High Saturation Current) / <br> / <br> Recommended soldering profile: Reflow / <br> / <br> / <br><b> Applications / <br> / <br></b> DC/DC converters especially at high switching frequencies > 1 MHz / <br> / <br> Electronic devices with very low profile / <br> / <br> Portable devices like Smart Phones, Tablets, Notebooks and Digital Cameras / <br> / <br> / <br> / <br><a href="<br><a href="http://katalog.we-online.de/media/images/eisos/IndPMI_pf2.jpgg" title="Enlarge picture"> / <img src="http://katalog.we-online.de/media/images/eisos/IndPMI_pf2.jpg" width="320"></a><p> / Details see: <a href="http://katalog.we-online.de/en/pbs/WE-PMI?">http://katalog.we-online.de/en/pbs/WE-PMI?</a><p> / Updated  by  Dan Xu 2014-07-08<br> / 2014 (C) Wurth Elektronik
footprint WE-PMI_1210
pins: 1, 2

## WE-POE+_EFD20
designator T?, comment <b>Power over Ethernet Plus Transformer / <br> / <br> / <br><b> Characteristics / <br> / <br></b></b> Designed to meet 25 W PoE+ requirements of IEEE802.3at / <br> / <br> Frequency range: 250–400 kHz / <br> / <br> Input voltage range: 36–72 V / <br> / <br> 1.5 kV Hipot test between primary and secondary / <br> / <br> Operating temperature: –40 °C to +125 °C / <br> / <br> / <br><b> Applications / <br> / <br></b> PoE+ powered devices / <br> / <br> IP phones / <br> / <br> WLAN-Access points / <br> / <br> Security cameras / <br> / <br> / <br> / <br><a href="<br><a href="http://katalog.we-online.de/media/images/eisos/UtPOE+_MID_pf2.jpg" title="Enlarge picture"> / <img src="http://katalog.we-online.de/media/images/eisos/UtPOE+_MID_pf2.jpg" width="320"></a><p> / Details see: <a href="http://katalog.we-online.de/en/pbs/WE-PoE_Plus?">http://katalog.we-online.de/en/pbs/WE-PoE_Plus?</a><p> / Updated  by  Dan Xu 2014-07-08<br> / 2014 (C) Wurth Elektronik
footprint WE_EFD20_SMD_12PIN
pins: 1, 2, 3, 4, 5, 6, 7, 8, 9, 10, 11, 12

## WE-POE+_EP13
designator T?, comment <b>Power over Ethernet Plus Transformer / <br> / <br> / <br><b> Characteristics / <br> / <br></b></b> Designed to meet 25 W PoE+ requirements of IEEE802.3at / <br> / <br> Frequency range: 250–400 kHz / <br> / <br> Input voltage range: 36–72 V / <br> / <br> 1.5 kV Hipot test between primary and secondary / <br> / <br> Operating temperature: –40 °C to +125 °C / <br> / <br> / <br><b> Applications / <br> / <br></b> PoE+ powered devices / <br> / <br> IP phones / <br> / <br> WLAN-Access points / <br> / <br> Security cameras / <br> / <br> / <br> / <br><a href="<br><a href="http://katalog.we-online.de/media/images/eisos/UtPOE+_MID_pf2.jpg" title="Enlarge picture"> / <img src="http://katalog.we-online.de/media/images/eisos/UtPOE+_MID_pf2.jpg" width="320"></a><p> / Details see: <a href="http://katalog.we-online.de/en/pbs/WE-PoE_Plus?">http://katalog.we-online.de/en/pbs/WE-PoE_Plus?</a><p> / Updated  by  Dan Xu 2014-07-08<br> / 2014 (C) Wurth Elektronik
footprint WE_EP13_SMD_10PIN
pins: 1 5, 2 4, 3, 4 2, 5 1, 6 10, 7 9, 8, 9 7, 10 6

## WE-POE_EFD15
designator T?, comment <b>Power over Ethernet Transformer / <br> / <br> / <br><b> Characteristics / <br> / <br></b></b> Flyback transformer designed for PoE PDs / <br> / <br> Input voltage: 36 V to 57 V / <br> / <br> Switching frequencies: 200–500 kHz / <br> / <br> Operating temperature: –40 ºC to +125 ºC / <br> / <br> Insulation test voltage: 1.5 kVAC/1 min / <br> / <br> Different output powers and voltages available / <br> / <br> / <br><b> Applications / <br> / <br></b> Suitable for PoE IC’s like LTC4267, TPS 23750, TPS 23770, LM5070, LM 5071, LM 5072 / <br> / <br> / <br><a href="<br><a href="http://katalog.we-online.de/media/images/eisos/UtPOE_MID_pf2.jpg" title="Enlarge picture"> / <img src="http://katalog.we-online.de/media/images/eisos/UtPOE_MID_pf2.jpg" width="320"></a><p> / Details see: <a href="http://katalog.we-online.de/en/pbs/WE-PoE?">http://katalog.we-online.de/en/pbs/WE-PoE?</a><p> / Updated  by  Dan Xu 2014-07-08<br> / 2014 (C) Wurth Elektronik
footprint WE_EFD15_SMD_12PIN
pins: 1, 2, 3, 4, 5, 6, 7, 8, 9, 10, 11, 12

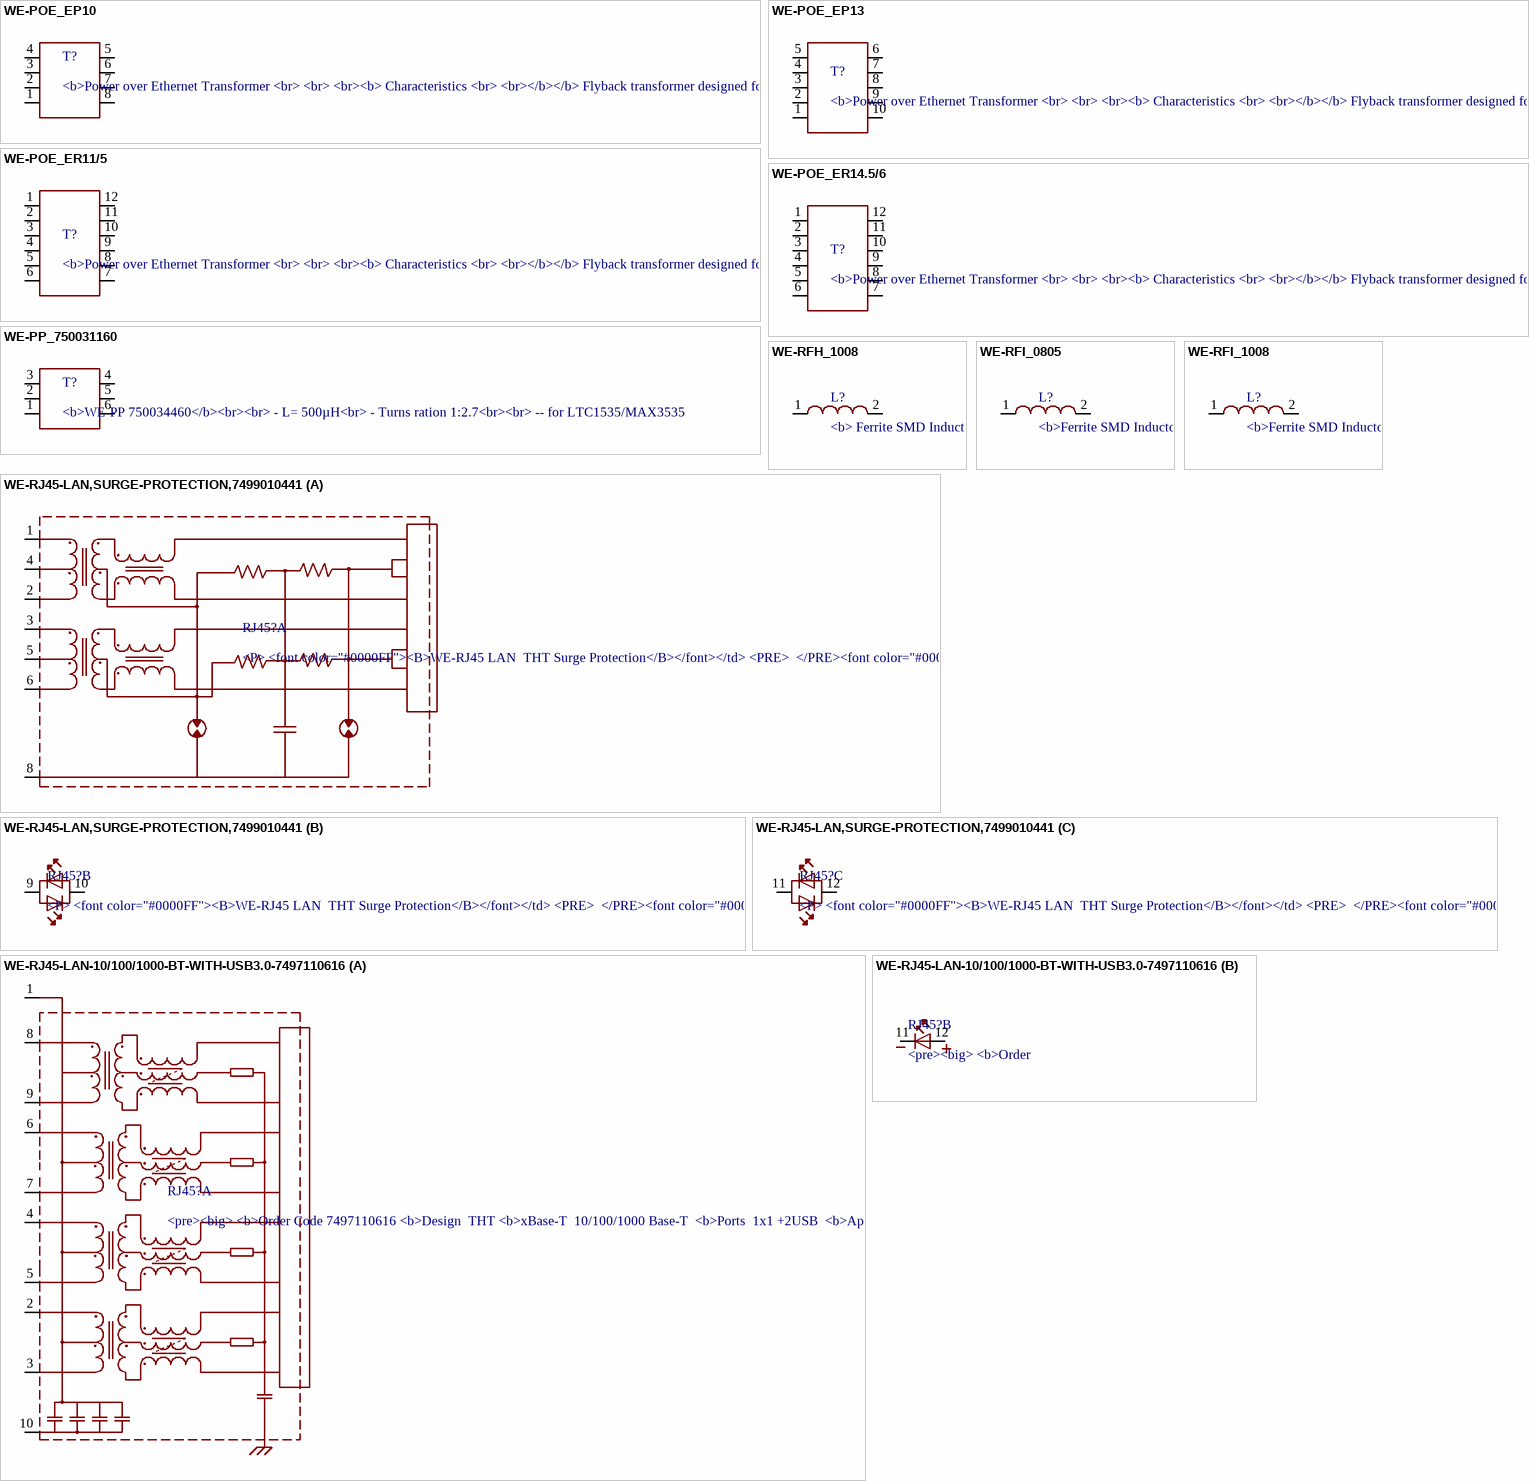
[diagram p26: symbols WE-POE_EP10 to WE-RJ45-LAN-10/100/1000-BT-WITH-USB3.0-7497110616]

## WE-POE_EP10
designator T?, comment <b>Power over Ethernet Transformer / <br> / <br> / <br><b> Characteristics / <br> / <br></b></b> Flyback transformer designed for PoE PDs / <br> / <br> Input voltage: 36 V to 57 V / <br> / <br> Switching frequencies: 200–500 kHz / <br> / <br> Operating temperature: –40 ºC to +125 ºC / <br> / <br> Insulation test voltage: 1.5 kVAC/1 min / <br> / <br> Different output powers and voltages available / <br> / <br> / <br><b> Applications / <br> / <br></b> Suitable for PoE IC’s like LTC4267, TPS 23750, TPS 23770, LM5070, LM 5071, LM 5072 / <br> / <br> / <br><a href="<br><a href="http://katalog.we-online.de/media/images/eisos/UtPOE_MID_pf2.jpg" title="Enlarge picture"> / <img src="http://katalog.we-online.de/media/images/eisos/UtPOE_MID_pf2.jpg" width="320"></a><p> / Details see: <a href="http://katalog.we-online.de/en/pbs/WE-PoE?">http://katalog.we-online.de/en/pbs/WE-PoE?</a><p> / Updated  by  Dan Xu 2014-07-08<br> / 2014 (C) Wurth Elektronik
footprint WE_EP10_SMD_8PIN
pins: 1, 2, 3, 4, 5, 6, 7, 8

## WE-POE_EP13
designator T?, comment <b>Power over Ethernet Transformer / <br> / <br> / <br><b> Characteristics / <br> / <br></b></b> Flyback transformer designed for PoE PDs / <br> / <br> Input voltage: 36 V to 57 V / <br> / <br> Switching frequencies: 200–500 kHz / <br> / <br> Operating temperature: –40 ºC to +125 ºC / <br> / <br> Insulation test voltage: 1.5 kVAC/1 min / <br> / <br> Different output powers and voltages available / <br> / <br> / <br><b> Applications / <br> / <br></b> Suitable for PoE IC’s like LTC4267, TPS 23750, TPS 23770, LM5070, LM 5071, LM 5072 / <br> / <br> / <br><a href="<br><a href="http://katalog.we-online.de/media/images/eisos/UtPOE_MID_pf2.jpg" title="Enlarge picture"> / <img src="http://katalog.we-online.de/media/images/eisos/UtPOE_MID_pf2.jpg" width="320"></a><p> / Details see: <a href="http://katalog.we-online.de/en/pbs/WE-PoE?">http://katalog.we-online.de/en/pbs/WE-PoE?</a><p> / Updated  by  Dan Xu 2014-07-08<br> / 2014 (C) Wurth Elektronik
footprint WE_EP13_SMD_10PIN
pins: 1 5, 2 4, 3, 4 2, 5 1, 6 10, 7 9, 8, 9 7, 10 6

## WE-POE_ER11/5
designator T?, comment <b>Power over Ethernet Transformer / <br> / <br> / <br><b> Characteristics / <br> / <br></b></b> Flyback transformer designed for PoE PDs / <br> / <br> Input voltage: 36 V to 57 V / <br> / <br> Switching frequencies: 200–500 kHz / <br> / <br> Operating temperature: –40 ºC to +125 ºC / <br> / <br> Insulation test voltage: 1.5 kVAC/1 min / <br> / <br> Different output powers and voltages available / <br> / <br> / <br><b> Applications / <br> / <br></b> Suitable for PoE IC’s like LTC4267, TPS 23750, TPS 23770, LM5070, LM 5071, LM 5072 / <br> / <br> / <br><a href="<br><a href="http://katalog.we-online.de/media/images/eisos/UtPOE_MID_pf2.jpg" title="Enlarge picture"> / <img src="http://katalog.we-online.de/media/images/eisos/UtPOE_MID_pf2.jpg" width="320"></a><p> / Details see: <a href="http://katalog.we-online.de/en/pbs/WE-PoE?">http://katalog.we-online.de/en/pbs/WE-PoE?</a><p> / Updated  by  Dan Xu 2014-07-08<br> / 2014 (C) Wurth Elektronik
footprint WE_ER11/5_SMD_12PIN
pins: 1, 2, 3, 4, 5, 6, 7, 8, 9, 10, 11, 12

## WE-POE_ER14.5/6
designator T?, comment <b>Power over Ethernet Transformer / <br> / <br> / <br><b> Characteristics / <br> / <br></b></b> Flyback transformer designed for PoE PDs / <br> / <br> Input voltage: 36 V to 57 V / <br> / <br> Switching frequencies: 200–500 kHz / <br> / <br> Operating temperature: –40 ºC to +125 ºC / <br> / <br> Insulation test voltage: 1.5 kVAC/1 min / <br> / <br> Different output powers and voltages available / <br> / <br> / <br><b> Applications / <br> / <br></b> Suitable for PoE IC’s like LTC4267, TPS 23750, TPS 23770, LM5070, LM 5071, LM 5072 / <br> / <br> / <br><a href="<br><a href="http://katalog.we-online.de/media/images/eisos/UtPOE_MID_pf2.jpg" title="Enlarge picture"> / <img src="http://katalog.we-online.de/media/images/eisos/UtPOE_MID_pf2.jpg" width="320"></a><p> / Details see: <a href="http://katalog.we-online.de/en/pbs/WE-PoE?">http://katalog.we-online.de/en/pbs/WE-PoE?</a><p> / Updated  by  Dan Xu 2014-07-08<br> / 2014 (C) Wurth Elektronik
footprint WE_ER14.5/6_SMD_12PIN
pins: 1, 2, 3, 4, 5, 6, 7, 8, 9, 10, 11, 12

## WE-PP_750031160
designator T?, comment <b>WE-PP 750034460</b><br><br> / - L= 500µH<br> / - Turns ration 1:2.7<br><br> / -- for LTC1535/MAX3535
footprint WE-PP_750031160
pins: 1, 2, 3, 4, 5, 6